# EAGLE library part STM32L486 (library My_STM32L486)
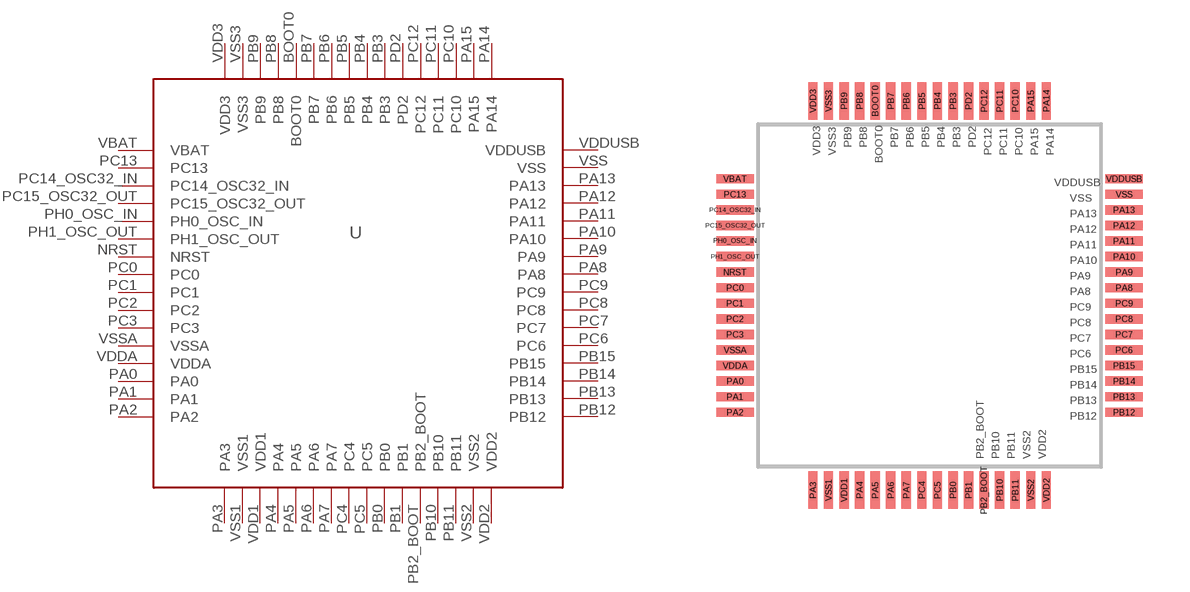
[diagram p0: symbol with the pads of STM32L486; footprint STM32L486]

Designator prefix -

## STM32L486  [STM32L486]
BOOT0  BOOT0
NRST  NRST
PA0  PA0
PA1  PA1
PA2  PA2
PA3  PA3
PA4  PA4
PA5  PA5
PA6  PA6
PA7  PA7
PA8  PA8
PA9  PA9
PA10  PA10
PA11  PA11
PA12  PA12
PA13  PA13
PA14  PA14
PA15  PA15
PB0  PB0
PB1  PB1
PB2_BOOT  PB2_BOOT
PB3  PB3
PB4  PB4
PB5  PB5
PB6  PB6
PB7  PB7
PB8  PB8
PB9  PB9
PB10  PB10
PB11  PB11
PB12  PB12
PB13  PB13
PB14  PB14
PB15  PB15
PC0  PC0
PC1  PC1
PC2  PC2
PC3  PC3
PC4  PC4
PC5  PC5
PC6  PC6
PC7  PC7
PC8  PC8
PC9  PC9
PC10  PC10
PC11  PC11
PC12  PC12
PC13  PC13
PC14_OSC32_IN  PC14_OSC32_IN
PC15_OSC32_OUT  PC15_OSC32_OUT
PD2  PD2
PH0_OSC_IN  PH0_OSC_IN
PH1_OSC_OUT  PH1_OSC_OUT
VBAT  VBAT
VDD1  VDD1
VDD2  VDD2
VDD3  VDD3
VDDA  VDDA
VDDUSB  VDDUSB
VSS  VSS
VSS1  VSS1
VSS2  VSS2
VSS3  VSS3
VSSA  VSSA

## Footprint STM32L486 (pad centres in mm)
smd 0.3 x 1.2: BOOT0 -1.75,6.25; PA3 -3.75,-6.25; PA4 -2.25,-6.25; PA5 -1.75,-6.25; PA6 -1.25,-6.25; PA7 -0.75,-6.25; PA14 3.75,6.25; PA15 3.25,6.25; PB0 0.75,-6.25; PB1 1.25,-6.25; PB2_BOOT 1.75,-6.25; PB3 0.75,6.25; PB4 0.25,6.25; PB5 -0.25,6.25; PB6 -0.75,6.25; PB7 -1.25,6.25; PB8 -2.25,6.25; PB9 -2.75,6.25; PB10 2.25,-6.25; PB11 2.75,-6.25; PC4 -0.25,-6.25; PC5 0.25,-6.25; PC10 2.75,6.25; PC11 2.25,6.25; PC12 1.75,6.25; PD2 1.25,6.25; VDD1 -2.75,-6.25; VDD2 3.75,-6.25; VDD3 -3.75,6.25; VSS1 -3.25,-6.25; VSS2 3.25,-6.25; VSS3 -3.25,6.25
smd 1.2 x 0.3: NRST -6.25,0.75; PA0 -6.25,-2.75; PA1 -6.25,-3.25; PA2 -6.25,-3.75; PA8 6.25,0.25; PA9 6.25,0.75; PA10 6.25,1.25; PA11 6.25,1.75; PA12 6.25,2.25; PA13 6.25,2.75; PB12 6.25,-3.75; PB13 6.25,-3.25; PB14 6.25,-2.75; PB15 6.25,-2.25; PC0 -6.25,0.25; PC1 -6.25,-0.25; PC2 -6.25,-0.75; PC3 -6.25,-1.25; PC6 6.25,-1.75; PC7 6.25,-1.25; PC8 6.25,-0.75; PC9 6.25,-0.25; PC13 -6.25,3.25; PC14_OSC32_IN -6.25,2.75; PC15_OSC32_OUT -6.25,2.25; PH0_OSC_IN -6.25,1.75; PH1_OSC_OUT -6.25,1.25; VBAT -6.25,3.75; VDDA -6.25,-2.25; VDDUSB 6.25,3.75; VSS 6.25,3.25; VSSA -6.25,-1.75